# Altium schematic symbol library LIBRERIA DIAZ BAEZ.SCHLIB: 180 symbols (part 2 of 2)
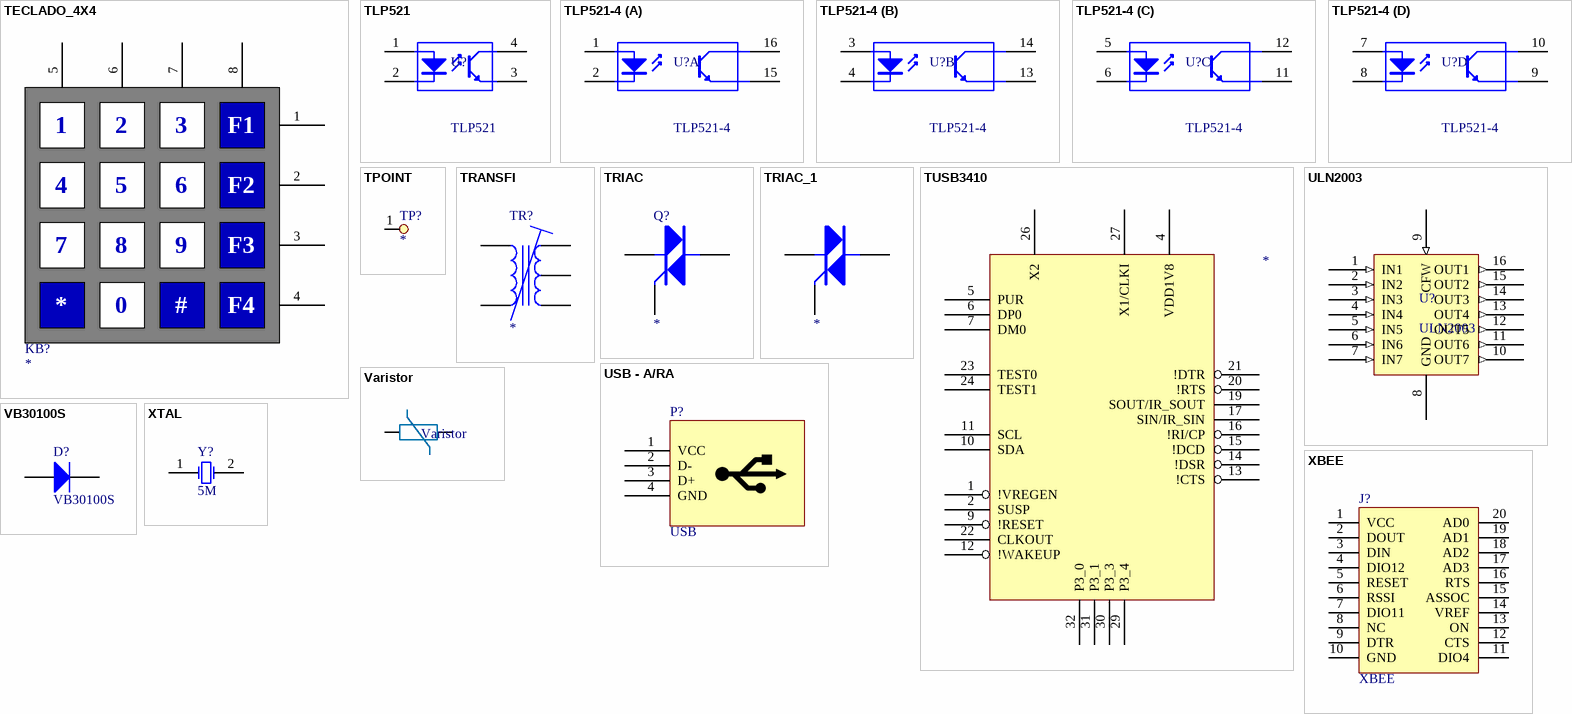
[diagram p6: symbols TECLADO_4X4 to XTAL]

## TUSB3410
designator ?
pins: 1 !VREGEN, 2 SUSP, 3 VCC hidden to VCC, 4 VDD1V8, 5 PUR, 6 DP0, 7 DM0, 8 GND hidden to GND, 9 !RESET, 10 SDA, 11 SCL, 12 !WAKEUP, 13 !CTS, 14 !DSR, 15 !DCD, 16 !RI/CP, 17 SIN/IR_SIN, 18 GND hidden to GND, 19 SOUT/IR_SOUT, 20 !RTS, 21 !DTR, 22 CLKOUT, 23 TEST0, 24 TEST1, 25 VCC hidden to VCC, 26 X2, 27 X1/CLKI, 28 GND hidden to GND, 29 P3_4, 30 P3_3, 31 P3_1, 32 P3_0

## ULN2003
designator U?
footprint DIP16
pins: 1 IN1 (in), 2 IN2 (in), 3 IN3 (in), 4 IN4 (in), 5 IN5 (in), 6 IN6 (in), 7 IN7 (in), 8 GND (power), 9 CFW (in), 10 OUT7 (out), 11 OUT6 (out), 12 OUT5 (out), 13 OUT4 (out), 14 OUT3 (out), 15 OUT2 (out), 16 OUT1 (out)

## USB - A/RA
designator P?, comment USB
footprint USB_B_SMD
footprint USB B
footprint USB B - 2
pins: 1 VCC, 2 D-, 3 D+, 4 GND, 5 hidden, 6 hidden

## Varistor
designator Varistor, comment Comment  (value not drawn)
Semiconductor Resistor; Published: 8-Jun-2000; LatestRevisionDate: 17-Jul-2002; LatestRevisionNote: Re-released for DXP Platform.; Publisher: Altium Limited
pins: 1, 2

## VB30100S
designator D?
High-Voltage Trench MOS Barrier Schottky Rectifier; Published: 8-Jun-2000; LatestRevisionDate: 17-Jul-2002; LatestRevisionNote: Re-released for DXP Platform.; DatasheetDocument: 1998; PackageDocument: Aug-1999; PackageReference: DO-41; Publisher: Altium Limited; Code_JEDEC: DO-204-AL; ComponentLink1Description: Manufacturer Link; ComponentLink1URL: http://www.fairchildsemi.com/; ComponentLink2Description: http://www.mouser.com/ds/2/427/v30100s-68660.pdf; ComponentLink2URL: http://www.fairchildsemi.com/ds/1N%2F1N4001.pdf
footprint D2PAK
pins: 1 K, 2 A, 3 hidden

## XBEE
designator J?
Xbee Zigbee module
footprint XBEE
footprint Xbee + Zocalo
footprint ZOCALO XBEE
pins: 1 VCC, 2 DOUT, 3 DIN, 4 DIO12, 5 RESET, 6 RSSI, 7 DIO11, 8 NC, 9 DTR, 10 GND, 11 DIO4, 12 CTS, 13 ON, 14 VREF, 15 ASSOC, 16 RTS, 17 AD3, 18 AD2, 19 AD1, 20 AD0

## XTAL
designator Y?, comment 5M
Crystal Oscillator; Published: 8-Jun-2000; LatestRevisionDate: 17-Jul-2002; LatestRevisionNote: Re-released for DXP Platform.; PackageReference: R38; Publisher: Altium Limited
simulation model XTAL (Spice Subcircuit)
footprint CRISTAL SMD
footprint HP49-S
footprint Xtal RTC
pins: 1 OSC1, 2 OSC2